# Altium integrated library USB protection.IntLib: 1 symbol
Pins are listed as number, name and electrical type; pins without a type are passive.

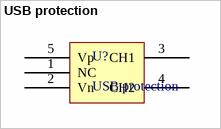
[diagram p0: symbol USB protection]

## USB protection
designator U?
footprint USB protection
pins: 1 NC, 2 Vn, 3 CH1, 4 CH2, 5 Vp